# EAGLE library part FT232RNL (library Interface_FTDI)
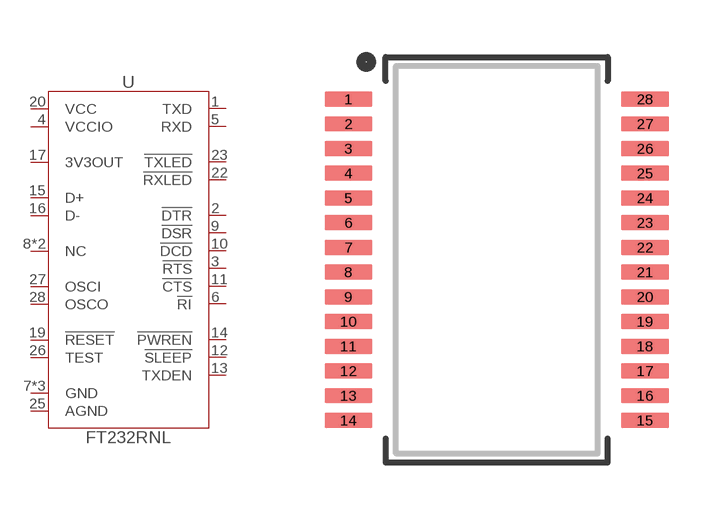
[diagram p0: symbol with the pads of SSOP-28; footprint SSOP-28]

Designator prefix U

## FT232RNL  [SSOP-28]
1  TXD  out
2  !DTR  out
3  !RTS  out
4  VCCIO  pwr
5  RXD  in
6  !RI  in
7  GND  pwr
8  NC  nc
9  !DSR  in
10  !DCD  in
11  !CTS  in
12  !SLEEP  out
13  TXDEN  out
14  !PWREN  out
15  D+
16  D-
17  3V3OUT  pas
18  GND  pwr
19  !RESET  in
20  VCC  pwr
21  GND  pwr
22  !RXLED  out
23  !TXLED  out
24  NC  nc
25  AGND  pwr
26  TEST  in
27  OSCI  in
28  OSCO  out

## Footprint SSOP-28 (pad centres in mm)
smd 1.25 x 0.4: 1 -3.9,4.225; 2 -3.9,3.575; 3 -3.9,2.925; 4 -3.9,2.275; 5 -3.9,1.625; 6 -3.9,0.975; 7 -3.9,0.325; 8 -3.9,-0.325; 9 -3.9,-0.975; 10 -3.9,-1.625; 11 -3.9,-2.275; 12 -3.9,-2.925; 13 -3.9,-3.575; 14 -3.9,-4.225; 15 3.9,-4.225; 16 3.9,-3.575; 17 3.9,-2.925; 18 3.9,-2.275; 19 3.9,-1.625; 20 3.9,-0.975; 21 3.9,-0.325; 22 3.9,0.325; 23 3.9,0.975; 24 3.9,1.625; 25 3.9,2.275; 26 3.9,2.925; 27 3.9,3.575; 28 3.9,4.225